# Altium footprint library ComponentLibrary.PcbLib: 153 footprints (part 5 of 10)
Each footprint in its own frame and in the unit in brackets; x right, y up, seen from the top. Pads: shape width x height; smd on the part's side, far side on the other; paste and mask are expansions set on the pad; w line width, h text height; cw(c..) or ccw(c..) is an arc to the next point about the centre after c.
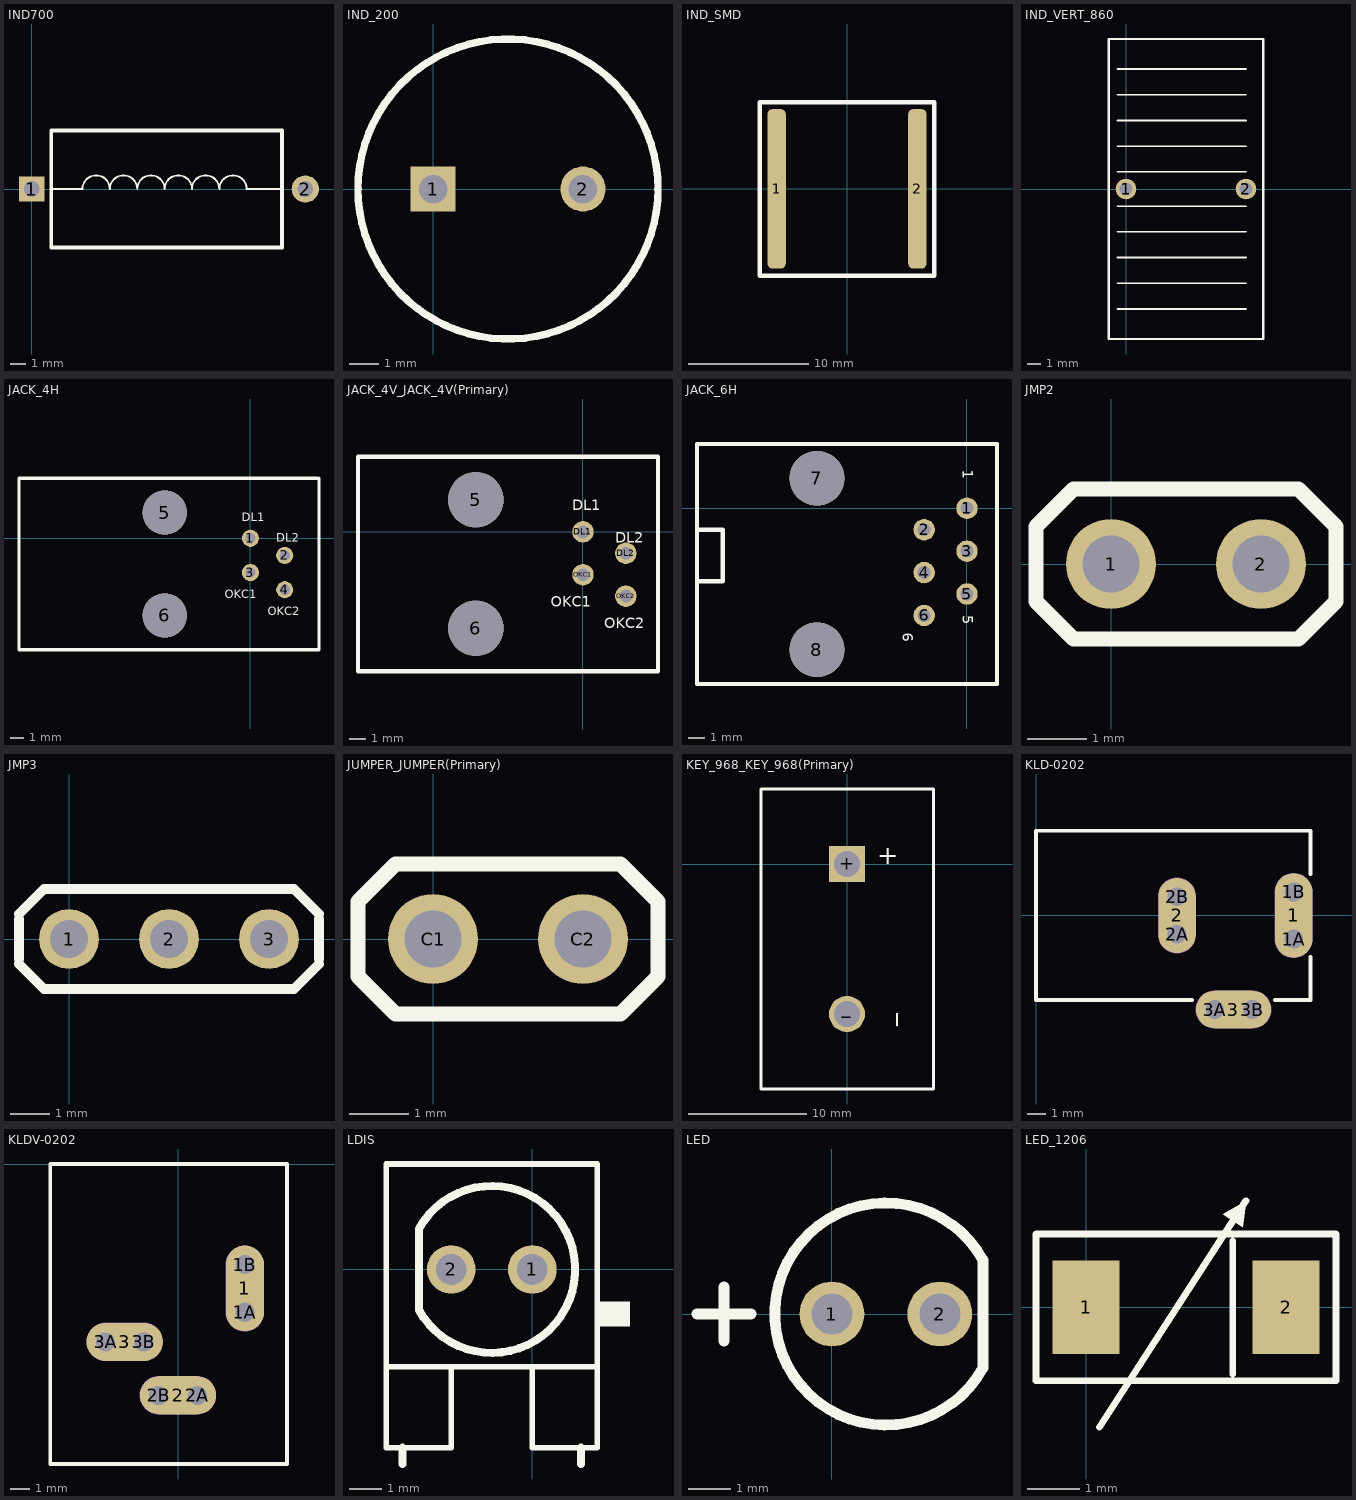
[diagram p4: the footprints below, top view; thin cyan lines are the x and y axes]

## IND700 [mil]
pads (2):
  rect 65x65 hole 40: 1(0,0)
  round 70 hole 40: 2(700,0)
Top Overlay:
  lines w5: 50,0 130,0 cw(c165,0) 200,0 cw(c235,0) 270,0 cw(c305,0) 340,0 cw(c375,0) 410,0 cw(c445,0) 480,0 cw(c515,0) 550,0 640,0
  lines w10: 50,-150 50,150 640,150 640,-150 50,-150

## IND_200 [mil]
pads (2):
  rect 60x60 hole 38: 1(0,0)
  round 60 hole 38: 2(200,0)
Top Overlay:
  circle w10: c100,0 r200

## IND_SMD [mm] "PULSE LCI SERIES"
height 9.14
pads (2):
  rrect50% 1.52x13.21 smd: 1(-5.84,0) 2(5.84,0)
Top Overlay:
  lines w0.381: -7.24,-7.2 7.24,-7.2 7.24,7.175 -7.24,7.175 -7.24,-7.2

## IND_VERT_860 [mil]
pads (2):
  round 60 hole 38: 1(0,0) 2(350,0)
Top Overlay:
  lines w5: -25,-350 350,-350 ; -25,-275 350,-275 ; -25,-200 350,-200 ; -25,-125 350,-125 ; -25,-50 0,-50 350,-50 ; -25,50 350,50 ; -25,125 350,125 ; -25,200 350,200 ; -25,275 350,275 ; -25,350 350,350
  lines w7: -50,-437.5 400,-437.5 400,437.5 -50,437.5 -50,-437.5

## JACK_4H [mil]
pads (6):
  round 50 hole 30: 1(0,0) 2(100,-50) 3(0,-100) 4(100,-150)
  round 129 hole 129 unplated: 5(-250,75) 6(-250,-225)
Top Overlay:
  lines w10: 195,175 -675,175 -675,-325 200,-325 200,175
  text "DL2" at 75,-10 h25
  text "OKC2" at 50,-225 h25
  text "DL1" at -25,50 h25
  text "OKC1" at -75,-175 h25

## JACK_4V_JACK_4V(Primary) [mil]
pads (6):
  round 129 hole 129 unplated: 5(-250,75) 6(-250,-225)
  round 50 hole 30: DL1(0,0) DL2(100,-50) OKC1(0,-100) OKC2(100,-150)
Top Overlay:
  lines w10: -525,-325 175,-325 175,175 -525,175 -525,-325
  text "DL2" at 75,-25 h25
  text "OKC2" at 50,-225 h25
  text "DL1" at -25,50 h25
  text "OKC1" at -75,-175 h25

## JACK_6H [mil]
pads (8):
  round 50 hole 30: 1(0,0) 2(-100,-50) 3(0,-100) 4(-100,-150) 5(0,-200) 6(-100,-250)
  round 128 hole 128 unplated: 7(-350,70) 8(-350,-330)
Top Overlay:
  lines w10: -630,-170 -570,-170 -570,-50 -630,-50 ; -630,-410 -630,150 70,150 70,-410 -630,-410
  text "6" at -150,-290 h25
  text "5" at -10,-250 h25
  text "1" at -10,90 h25

## JMP2 [mil]
pads (2):
  round 60 hole 38: 1(0,0) 2(100,0)
Top Overlay:
  lines w10: -50,-25 -50,25 -25,50 125,50 150,25 150,-25 125,-50 -25,-50 -50,-25

## JMP3 [mil]
pads (3):
  round 60 hole 38: 1(0,0) 2(100,0) 3(200,0)
Top Overlay:
  lines w10: -50,-25 -25,-50 225,-50 250,-25 ; -50,-20 -50,20 ; -50,25 -25,50 225,50 250,25 ; 250,-20 250,20

## JUMPER_JUMPER(Primary) [mil]
pads (2):
  round 60 hole 38: C1(0,0) C2(100,0)
Top Overlay:
  lines w10: -50,-25 -50,25 -25,50 125,50 150,25 150,-25 125,-50 -25,-50 -50,-25

## KEY_968_KEY_968(Primary) [mil]
pads (2):
  rect 120x120 hole 86: +(0,0)
  round 120 hole 86: _(0,-500)
Top Overlay:
  lines w10: -287.5,-750 -287.5,250 287.5,250 287.5,-750 -287.5,-750
  text "_" at 150,-540 h62.5
  text "+" at 100,0 h62.5

## KLD-0202 [mm] "DC Power Jack, 2.5mm, KLD Series, PCB Mount"
pads (9):
  oval 2x4.5 all layers, no hole: 1(13.7,0)
  round 1.5 hole 1: 1A(13.7,-1.25) 1B(13.7,1.25) 2A(7.5,-1) 2B(7.5,1) 3A(9.5,-5) 3B(11.5,-5)
  oval 2x4 all layers, no hole: 2(7.5,0)
  oval 4x2 all layers, no hole: 3(10.5,-5)
Top Overlay:
  lines w0.2: 8.3,-4.5 0,-4.5 0,4.5 14.6,4.5 14.6,2.2 ; 12.7,-4.5 14.6,-4.5 14.6,-2.2
Mechanical 1:
  lines w1: 9.5,-5 11.5,-5 ; 13.7,-1.25 13.7,1.25
  text "Alert PCB fab to slot details" at 0.286,6.066 h0.3
  text "Assign keep-out area to slot" at 0.286,6.566 h0.3
  text "Mech 1 - Slot cut-out" at 0.286,5.566 h0.3
  text "Mech 2 - Clearance, move to internal plane if present" at 0.286,5.066 h0.3
Mechanical 1 keep-out:
  lines w1: 7.5,-1 7.5,1
Mechanical 2:
  lines w2.016: 7.5,-1 7.5,1 ; 9.5,-5 11.5,-5 ; 13.7,-1.25 13.7,1.25

## KLDV-0202 [mm] "DC Power Jack, 2.5mm, KLD Series, PCB Mount, Vertical"
pads (9):
  oval 2x4.5 all layers, no hole: 1(3.5,-6.5)
  round 1.5 hole 1: 1A(3.5,-7.75) 1B(3.5,-5.25) 2A(1.016,-12.1) 2B(-1.016,-12.1) 3A(-3.8,-9.3) 3B(-1.8,-9.3)
  oval 4x2 all layers, no hole: 2(0,-12.1) 3(-2.8,-9.3)
Top Overlay:
  lines w0.2: 5.7,-15.7 -6.7,-15.7 -6.7,0.02 5.71,0.02 5.71,-15.7
Mechanical 1:
  lines w1: -3.8,-9.3 -1.8,-9.3 ; -1.016,-12.1 0.984,-12.1 ; 3.5,-7.75 3.5,-5.25
  text "Mech 2 - Clearance, move to internal plane if present" at -6.404,0.786 h0.3
  text "Mech 1 - Slot cut-out" at -6.404,1.286 h0.3
  text "Assign keep-out area to slot" at -6.404,2.286 h0.3
  text "Alert PCB fab to slot details" at -6.404,1.786 h0.3
Mechanical 2:
  lines w2.016: -3.8,-9.3 -1.8,-9.3 ; -1.016,-12.1 0.984,-12.1 ; 3.5,-7.75 3.5,-5.25

## LDIS [mil]
pads (2):
  round 60 hole 38: 1(0,0) 2(-100,0)
Top Overlay:
  region: 80,-70 100,-70 120,-70 120,-60 120,-40 100,-40 80,-40
  lines w7: -180,-120 80,-120 ; -100,-120 -100,-220 -180,-220 -180,130 80,130 80,-220 0,-220 0,-120
  lines w10: -160,-240 -160,-220 ; -140,-50 -140,50 ; -139.96,-50.07 ccw(c-50,0) -139.96,50.07 ; 60,-240 60,-220

## LED [mil]
pads (2):
  round 60 hole 38: 1(0,0) 2(100,0)
Top Overlay:
  lines w10: -125,0 -75,0 ; -100,-25 -100,25 ; 139.96,-50.07 cw(c50,0) 139.96,50.07 ; 140,-50 140,50

## LED_1206 [mil]
pads (2):
  rect 50x70 smd: 1(0,0) 2(150,0)
Top Overlay:
  region: 102.5,70 117.5,60 120,80
  lines w5: 10,-90 120,80 ; 110,-50 110,50 ; -37.5,-55 187.5,-55 187.5,55 -37.5,55 -37.5,-55